# EAGLE library part WT32-ETH01 (library WT32-ETH01)
Check availability <https://pricing.snapeda.com/parts/WT32-ETH01/wireless-tag/view-part?ref=eda>
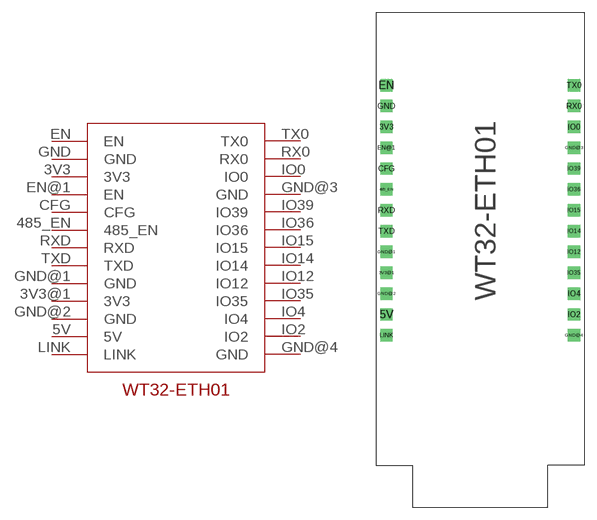
[diagram p0: symbol with the pads of WT32-ETH01; footprint WT32-ETH01]

Designator prefix -

## WT32-ETH01 (AVAILABILITY: Not in stock; CHECK_PRICES: https://www.snapeda.com/parts/WT32-ETH01/Wireless-Tag/view-part/?ref=eda; DESCRIPTION: Embedded serial port to Ethernet module; MF: wireless-tag; MP: WT32-ETH01; PACKAGE: None; PRICE: None; SNAPEDA_LINK: https://www.snapeda.com/parts/WT32-ETH01/Wireless-Tag/view-part/?ref=snap)  [WT32-ETH01]
3V3  3V3
3V3@1  3V3
5V  5V
485_EN  485_EN
CFG  CFG
EN  EN
EN@1  EN
GND  GND
GND@1  GND
GND@2  GND
GND@3  GND
GND@4  GND
IO0  IO0
IO2  IO2
IO4  IO4
IO12  IO12
IO14  IO14
IO15  IO15
IO35  IO35
IO36  IO36
IO39  IO39
LINK  LINK
RX0  RX0
RXD  RXD
TX0  TX0
TXD  TXD

## Footprint WT32-ETH01 (pad centres in mm)
drill 1 square: 3V3 0.635,-5.08; 3V3@1 0.635,-22.86; 5V 0.635,-27.94; 485_EN 0.635,-12.7; CFG 0.635,-10.16; EN 0.635,0; EN@1 0.635,-7.62; GND 0.635,-2.54; GND@1 0.635,-20.32; GND@2 0.635,-25.4; GND@3 23.495,-7.62; GND@4 23.495,-30.48; IO0 23.495,-5.08; IO2 23.495,-27.94; IO4 23.495,-25.4; IO12 23.495,-20.32; IO14 23.495,-17.78; IO15 23.495,-15.24; IO35 23.495,-22.86; IO36 23.495,-12.7; IO39 23.495,-10.16; LINK 0.635,-30.48; RX0 23.495,-2.54; RXD 0.635,-15.24; TX0 23.495,0; TXD 0.635,-17.78